# Altium schematic symbol library 2N7002.SchLib: 1 symbol
Pins are listed as number, name and electrical type; pins without a type are passive.

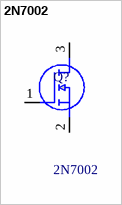
[diagram p0: symbol 2N7002]

## 2N7002
designator Q?
MOSFET N-CH 60V 0.2A SOT-23; Manufacturer_Name: STMicroelectronics; Geometry.Height: 1.11mm; Manufacturer_Part_Number: 2N7002; Mouser Part Number: 511-2N7002; Mouser Price/Stock: https://www.mouser.co.uk/ProductDetail/STMicroelectronics/2N7002?qs=gr8Zi5OG3MhbM22ee9cxCw%3D%3D; Arrow Part Number: 2N7002; Arrow Price/Stock: https://www.arrow.com/en/products/2n7002/stmicroelectronics; Datasheet Link: https://componentsearchengine.com/Datasheets/2/2N7002.pdf
footprint SOT96P237X111-3N
pins: 1 G, 2 S, 3 D